# EAGLE library part M38867(80PIN) (library renesas_mcu)
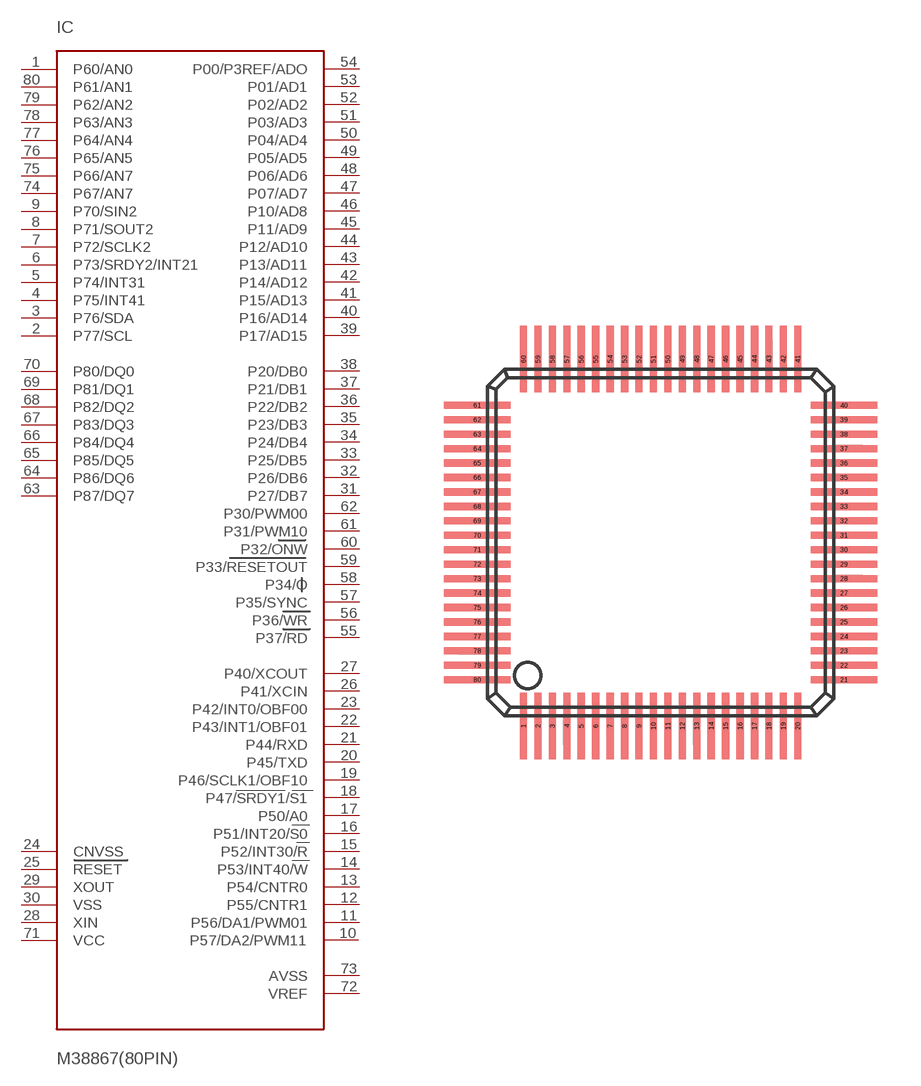
[diagram p69: symbol with the pads of 80P6Q-A; footprint 80P6Q-A]

Designator prefix IC

## M38867(80PIN)HP  [80P6Q-A]
1  P60/AN0
2  P77/SCL
3  P76/SDA
4  P75/INT41
5  P74/INT31
6  P73/SRDY2/INT21
7  P72/SCLK2
8  P71/SOUT2
9  P70/SIN2
10  P57/DA2/PWM11
11  P56/DA1/PWM01
12  P55/CNTR1
13  P54/CNTR0
14  P53/INT40/W
15  P52/INT30/R
16  P51/INT20/S0
17  P50/A0
18  P47/SRDY1/S1
19  P46/SCLK1/OBF10
20  P45/TXD
21  P44/RXD
22  P43/INT1/OBF01
23  P42/INT0/OBF00
24  CNVSS  in
25  RESET  in
26  P41/XCIN
27  P40/XCOUT
28  XIN  in
29  XOUT  out
30  VSS  pwr
31  P27/DB7  out
32  P26/DB6  out
33  P25/DB5  out
34  P24/DB4  out
35  P23/DB3  out
36  P22/DB2  out
37  P21/DB1  out
38  P20/DB0  out
39  P17/AD15
40  P16/AD14
41  P15/AD13
42  P14/AD12
43  P13/AD11
44  P12/AD10
45  P11/AD9
46  P10/AD8
47  P07/AD7
48  P06/AD6
49  P05/AD5
50  P04/AD4
51  P03/AD3
52  P02/AD2
53  P01/AD1
54  P00/P3REF/ADO
55  P37/RD
56  P36/WR
57  P35/SYNC
58  P34/O
59  P33/RESETOUT
60  P32/ONW
61  P31/PWM10
62  P30/PWM00
63  P87/DQ7
64  P86/DQ6
65  P85/DQ5
66  P84/DQ4
67  P83/DQ3  in
68  P82/DQ2
69  P81/DQ1
70  P80/DQ0
71  VCC  pwr
72  VREF  in
73  AVSS  in
74  P67/AN7
75  P66/AN7
76  P65/AN5
77  P64/AN4
78  P63/AN3
79  P62/AN2
80  P61/AN1

## Footprint 80P6Q-A (pad centres in mm)
smd 0.25 x 2.3: 1 -4.75,-6.35; 2 -4.25,-6.35; 3 -3.75,-6.35; 4 -3.25,-6.35; 5 -2.75,-6.35; 6 -2.25,-6.35; 7 -1.75,-6.35; 8 -1.25,-6.35; 9 -0.75,-6.35; 10 -0.25,-6.35; 11 0.25,-6.35; 12 0.75,-6.35; 13 1.25,-6.35; 14 1.75,-6.35; 15 2.25,-6.35; 16 2.75,-6.35; 17 3.25,-6.35; 18 3.75,-6.35; 19 4.25,-6.35; 20 4.75,-6.35; 41 4.75,6.35; 42 4.25,6.35; 43 3.75,6.35; 44 3.25,6.35; 45 2.75,6.35; 46 2.25,6.35; 47 1.75,6.35; 48 1.25,6.35; 49 0.75,6.35; 50 0.25,6.35; 51 -0.25,6.35; 52 -0.75,6.35; 53 -1.25,6.35; 54 -1.75,6.35; 55 -2.25,6.35; 56 -2.75,6.35; 57 -3.25,6.35; 58 -3.75,6.35; 59 -4.25,6.35; 60 -4.75,6.35
smd 2.3 x 0.25: 21 6.35,-4.75; 22 6.35,-4.25; 23 6.35,-3.75; 24 6.35,-3.25; 25 6.35,-2.75; 26 6.35,-2.25; 27 6.35,-1.75; 28 6.35,-1.25; 29 6.35,-0.75; 30 6.35,-0.25; 31 6.35,0.25; 32 6.35,0.75; 33 6.35,1.25; 34 6.35,1.75; 35 6.35,2.25; 36 6.35,2.75; 37 6.35,3.25; 38 6.35,3.75; 39 6.35,4.25; 40 6.35,4.75; 61 -6.35,4.75; 62 -6.35,4.25; 63 -6.35,3.75; 64 -6.35,3.25; 65 -6.35,2.75; 66 -6.35,2.25; 67 -6.35,1.75; 68 -6.35,1.25; 69 -6.35,0.75; 70 -6.35,0.25; 71 -6.35,-0.25; 72 -6.35,-0.75; 73 -6.35,-1.25; 74 -6.35,-1.75; 75 -6.35,-2.25; 76 -6.35,-2.75; 77 -6.35,-3.25; 78 -6.35,-3.75; 79 -6.35,-4.25; 80 -6.35,-4.75